# Altium footprint library FUSE.PcbLib: 1 footprints
Each footprint in its own frame and in the unit in brackets; x right, y up, seen from the top. Pads: shape width x height; smd on the part's side, far side on the other; paste and mask are expansions set on the pad; w line width, h text height; cw(c..) or ccw(c..) is an arc to the next point about the centre after c.
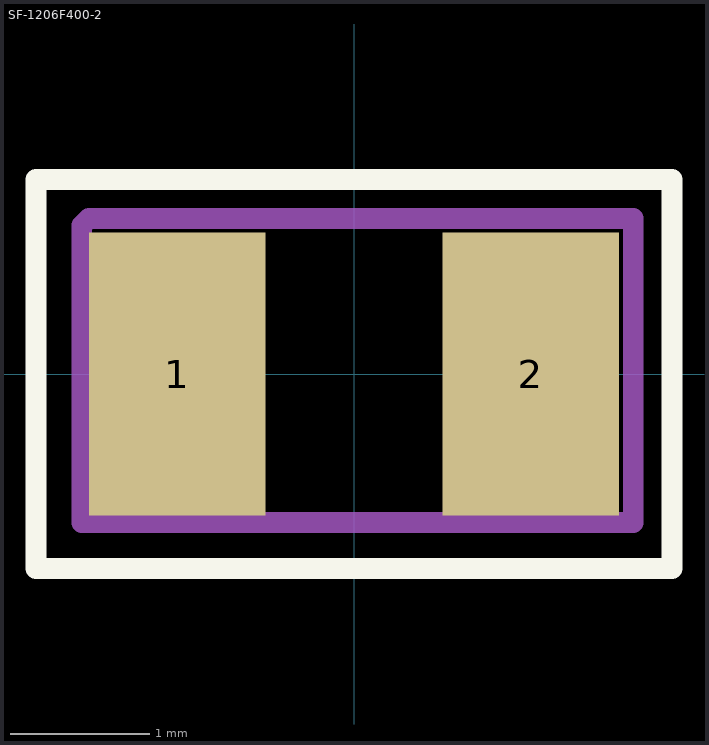
[diagram p0: the footprint, top view; thin cyan lines are the x and y axes]

## SF-1206F400-2 [mm]
pads (2):
  rect 1.27x2.03 smd: 1(-1.27,0) 2(1.27,0)
Top Overlay:
  lines w0.15: -2.286,-1.397 -2.286,1.397 2.286,1.397 2.286,-1.397 -2.286,-1.397
Mechanical 29:
  lines w0.15: -1.956,-1.067 2.007,-1.067 2.007,1.118 -1.905,1.118 -1.956,1.067 -1.956,-1.067
  lines w0.254: -1.377,0.658 cw(c-1.448,0.686) -1.372,0.686
  text ".Designator" at -1.143,-0.356 h0.51